# EAGLE library part ZUW3 (library wheat)
ZUW3 DC-DC CONVERTER COSEL
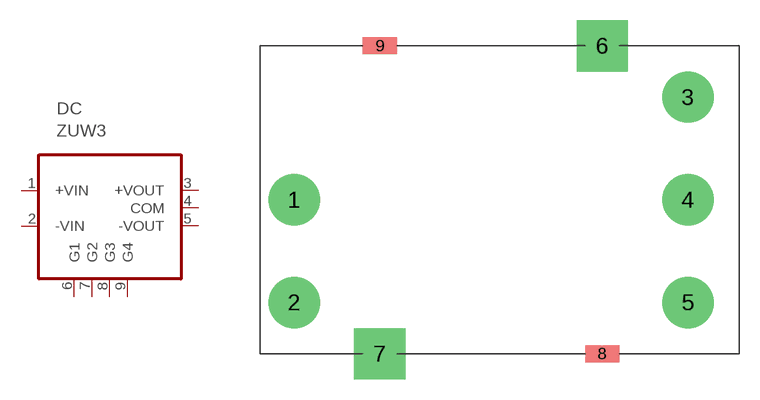
[diagram p10: symbol with the pads of ZUW3; footprint ZUW3]

Designator prefix DC

## ZUW3  [ZUW3]
1  +VIN  pas
2  -VIN  pas
3  +VOUT  pas
4  COM  pas
5  -VOUT  pas
6  G1  pas
7  G2  pas
8  G3  pas
9  G4  pas

## Footprint ZUW3 (pad centres in mm)
ZUW3 DC-DC CONVERTER COSEL
drill 1.676 pad 3.81: 1 0,0; 2 0,-7.62; 3 29.21,7.62; 4 29.21,0; 5 29.21,-7.62
drill 1.676 pad 3.81 square: 6 22.86,11.43; 7 6.35,-11.43
smd 2.54 x 1.27: 8 22.86,-11.43; 9 6.35,11.43